# EAGLE library part HDR-100-06 (library con-molex-kk)
HEADER
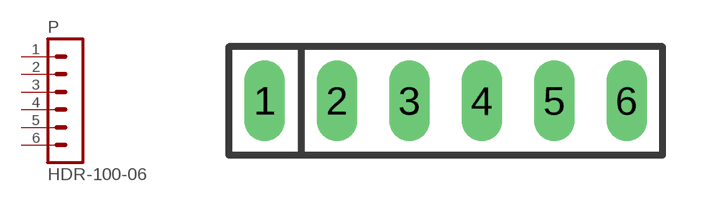
[diagram p158: symbol with the pads of HDR-100-06; footprint HDR-100-06]

Designator prefix P

## HDR-100-06  [HDR-100-06]
1  1  pas
2  2  pas
3  3  pas
4  4  pas
5  5  pas
6  6  pas

## Footprint HDR-100-06 (pad centres in mm)
HEADER - pitch 0.1"
drill 0.914 long: 1 -6.35,0; 2 -3.81,0; 3 -1.27,0; 4 1.27,0; 5 3.81,0; 6 6.35,0